# Altium schematic symbol library MPT-02-6.30-XX-X-V.SchLib: 1 symbol
Pins are listed as number, name and electrical type; pins without a type are passive.

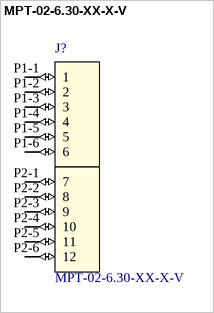
[diagram p0: symbol MPT-02-6.30-XX-X-V]

## MPT-02-6.30-XX-X-V
designator J?
Value: *
footprint *MPT-02-6.30-XX-X-V_MPT-02-6.30-XX-X-V(Primary)
pins: P1-1 1 (io), P1-2 2 (io), P1-3 3 (io), P1-4 4 (io), P1-5 5 (io), P1-6 6 (io), P2-1 7 (io), P2-2 8 (io), P2-3 9 (io), P2-4 10 (io), P2-5 11 (io), P2-6 12 (io)